# Altium schematic symbol library RT6254BHGJ6F.SchLib: 1 symbol
Pins are listed as number, name and electrical type; pins without a type are passive.

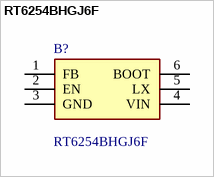
[diagram p0: symbol RT6254BHGJ6F]

## RT6254BHGJ6F
designator B?
RICHTEK - RT6254BHGJ6F - DC/DC CONV, SYNC BUCK, 500KHZ, TSOT-23-6; Geometry.Height: 1mm; Manufacturer_Name: RICHTEK; Manufacturer_Part_Number: RT6254BHGJ6F; Mouser Part Number: 835-RT6254BHGJ6F; Mouser Price/Stock: https://www.mouser.co.uk/ProductDetail/Richtek/RT6254BHGJ6F?qs=amGC7iS6iy9rwZmDNPA8RA%3D%3D; Arrow Part Number: *; Arrow Price/Stock: *; Datasheet Link: https://4donline.ihs.com/images/VipMasterIC/IC/RHTK/RHTK-S-A0009164484/RHTK-S-A0009164484-1.pdf?hkey=EF798316E3902B6ED9A73243A3159BB0
footprint SOT95P280X100-6N
pins: 1 FB, 2 EN, 3 GND, 4 VIN, 5 LX, 6 BOOT